# Altium integrated library NXP Semiconductors Automotive MOSFETs.IntLib: 540 symbols (part 9 of 16)
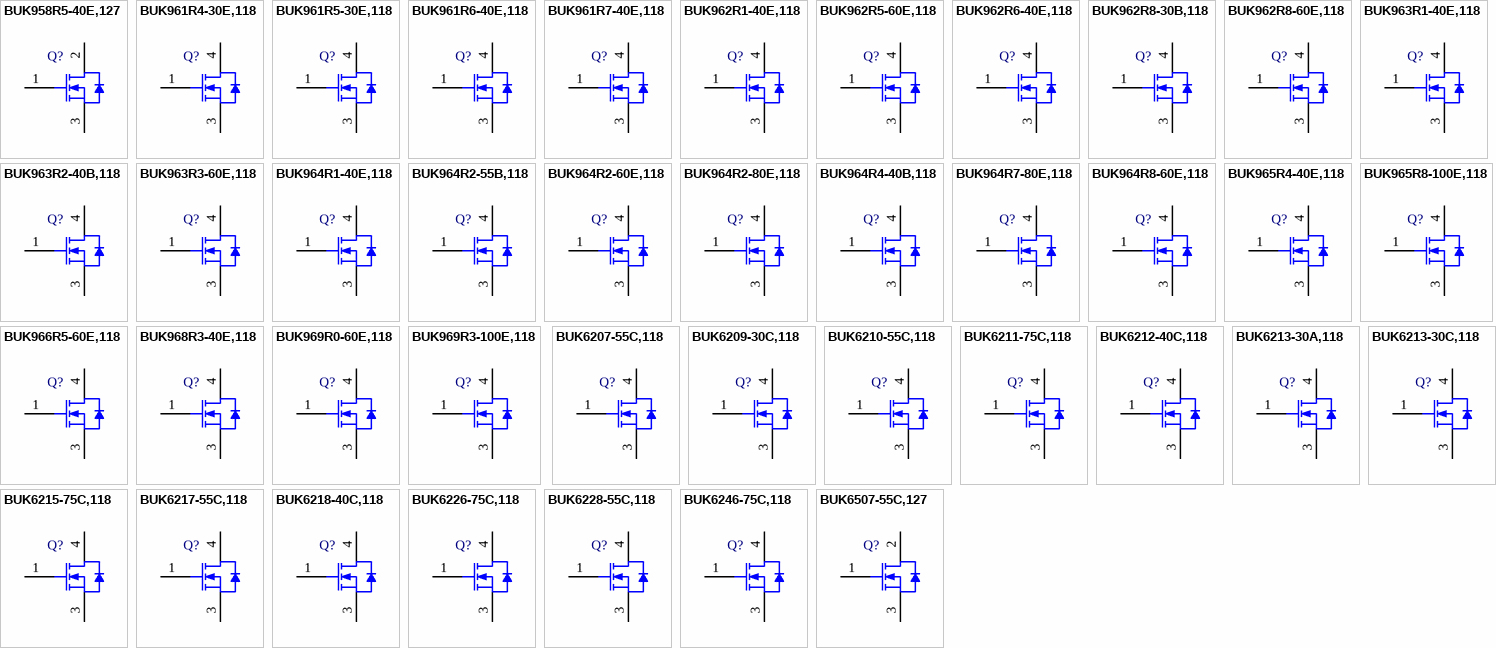
[diagram p22: symbols BUK958R5-40E,127 to BUK6507-55C,127]

## BUK961R7-40E,118
designator Q?
N-Channel TrenchMOS Logic Level FET, 40 V, 120 A, 3-Pin SOT404, Tape and Reel; Manufacturer: NXP Semiconductors; PartNumber: BUK961R7-40E,118; Automotive Qualified: Y; Channel Type: N; ID [max] (A): 120; IDM [max] (A): 1260; Packing: Tape & Reel; Qr [typ] (nC): 58.5; VDS [max] (V): 40; VGSth [typ] (V): 1.7; PackageVersion: 13-02-25, 02/2013; PackageReference: SOT404; PackageDescription: 3-Pin Plastic Single-ended Surface Mounted Package, Body 10 x 9.6 mm, Pitch 2.54 mm; Supplier 1: Digi-Key; Supplier Part Number 1: 568-10248-2-ND; Supplier 2: Digi-Key; Supplier Part Number 2: 568-10248-1-ND; Supplier 3: Digi-Key; Supplier Part Number 3: 568-10248-6-ND; Supplier 4: Mouser; Supplier Part Number 4: 771-BUK961R7-40E118; Mounting Technology: Surface Mount; ComponentLink1Description: Manufacturer URL; ComponentLink1URL: http://www.nxp.com/; ComponentLink2Description: Datasheet; ComponentLink2URL: http://www.nxp.com/documents/data_sheet/BUK961R7-40E.pdf; ComponentLink3Description: Package Specification; ComponentLink3URL: http://www.nxp.com/documents/outline_drawing/sot404_po.pdf
footprint NXP-SOT404_N (DPAK, 3-Leads, Body 10.3x9.8mm, Pitch 2.54mm, IPC Medium Density)
footprint NXP-SOT404_L (DPAK, 3-Leads, Body 10.3x9.8mm, Pitch 2.54mm, IPC High Density)
footprint NXP-SOT404_M (DPAK, 3-Leads, Body 10.3x9.8mm, Pitch 2.54mm, IPC Low Density)
pins: 1 G "gate", 3 S "source", 4 D "mounting base; connected to drain"

## BUK962R1-40E,118
designator Q?
N-Channel TrenchMOS Logic Level FET, 40 V, 120 A, 3-Pin SOT404, Tape and Reel; Manufacturer: NXP Semiconductors; PartNumber: BUK962R1-40E,118; Automotive Qualified: Y; Channel Type: N; ID [max] (A): 120; IDM [max] (A): 1078; Packing: Tape & Reel; Qr [typ] (nC): 62; VDS [max] (V): 40; VGSth [typ] (V): 1.7; PackageVersion: 13-02-25, 02/2013; PackageReference: SOT404; PackageDescription: 3-Pin Plastic Single-ended Surface Mounted Package, Body 10 x 9.6 mm, Pitch 2.54 mm; Supplier 1: Digi-Key; Supplier Part Number 1: 568-10249-2-ND; Supplier 2: Digi-Key; Supplier Part Number 2: 568-10249-1-ND; Supplier 3: Digi-Key; Supplier Part Number 3: 568-10249-6-ND; Supplier 4: Mouser; Supplier Part Number 4: 771-BUK962R1-40E118; Mounting Technology: Surface Mount; ComponentLink1Description: Manufacturer URL; ComponentLink1URL: http://www.nxp.com/; ComponentLink2Description: Datasheet; ComponentLink2URL: http://www.nxp.com/documents/data_sheet/BUK962R1-40E.pdf; ComponentLink3Description: Package Specification; ComponentLink3URL: http://www.nxp.com/documents/outline_drawing/sot404_po.pdf
footprint NXP-SOT404_N (DPAK, 3-Leads, Body 10.3x9.8mm, Pitch 2.54mm, IPC Medium Density)
footprint NXP-SOT404_L (DPAK, 3-Leads, Body 10.3x9.8mm, Pitch 2.54mm, IPC High Density)
footprint NXP-SOT404_M (DPAK, 3-Leads, Body 10.3x9.8mm, Pitch 2.54mm, IPC Low Density)
pins: 1 G "gate", 3 S "source", 4 D "mounting base; connected to drain"

## BUK962R5-60E,118
designator Q?
N-Channel TrenchMOS Logic Level FET, 60 V, 120 A, 3-Pin SOT404, Tape and Reel; Manufacturer: NXP Semiconductors; PartNumber: BUK962R5-60E,118; Automotive Qualified: Y; Channel Type: N; ID [max] (A): 120; IDM [max] (A): 1019; Packing: Tape & Reel; Qr [typ] (nC): 98; VDS [max] (V): 60; VGSth [typ] (V): 1.7; DatasheetVersion: Rev. 2; PackageVersion: 13-02-25, 02/2013; PackageReference: SOT404; PackageDescription: 3-Pin Plastic Single-ended Surface Mounted Package, Body 10 x 9.6 mm, Pitch 2.54 mm; Supplier 1: Digi-Key; Supplier Part Number 1: 568-9569-2-ND; Supplier 2: Digi-Key; Supplier Part Number 2: 568-9569-1-ND; Supplier 3: Digi-Key; Supplier Part Number 3: 568-9569-6-ND; Supplier 4: Mouser; Supplier Part Number 4: 771-BUK962R5-60E,118; Mounting Technology: Surface Mount; ComponentLink1Description: Manufacturer URL; ComponentLink1URL: http://www.nxp.com/; ComponentLink2Description: Datasheet; ComponentLink2URL: http://www.nxp.com/documents/data_sheet/BUK962R5-60E.pdf; ComponentLink3Description: Package Specification; ComponentLink3URL: http://www.nxp.com/documents/outline_drawing/sot404_po.pdf
footprint NXP-SOT404_N (DPAK, 3-Leads, Body 10.3x9.8mm, Pitch 2.54mm, IPC Medium Density)
footprint NXP-SOT404_L (DPAK, 3-Leads, Body 10.3x9.8mm, Pitch 2.54mm, IPC High Density)
footprint NXP-SOT404_M (DPAK, 3-Leads, Body 10.3x9.8mm, Pitch 2.54mm, IPC Low Density)
pins: 1 G "gate", 3 S "source", 4 D "mounting base; connected to drain"

## BUK962R6-40E,118
designator Q?
N-Channel TrenchMOS Logic Level FET, 40 V, 100 A, 3-Pin SOT404, Tape and Reel; Manufacturer: NXP Semiconductors; PartNumber: BUK962R6-40E,118; Automotive Qualified: Y; Channel Type: N; ID [max] (A): 100; IDM [max] (A): 885; Packing: Tape & Reel; Qr [typ] (nC): 49; VDS [max] (V): 40; VGSth [typ] (V): 1.7; PackageVersion: 13-02-25, 02/2013; PackageReference: SOT404; PackageDescription: 3-Pin Plastic Single-ended Surface Mounted Package, Body 10 x 9.6 mm, Pitch 2.54 mm; Supplier 1: Digi-Key; Supplier Part Number 1: 568-10250-2-ND; Supplier 2: Digi-Key; Supplier Part Number 2: 568-10250-1-ND; Supplier 3: Digi-Key; Supplier Part Number 3: 568-10250-6-ND; Supplier 4: Mouser; Supplier Part Number 4: 771-BUK962R6-40E118; Mounting Technology: Surface Mount; ComponentLink1Description: Manufacturer URL; ComponentLink1URL: http://www.nxp.com/; ComponentLink2Description: Datasheet; ComponentLink2URL: http://www.nxp.com/documents/data_sheet/BUK962R6-40E.pdf; ComponentLink3Description: Package Specification; ComponentLink3URL: http://www.nxp.com/documents/outline_drawing/sot404_po.pdf
footprint NXP-SOT404_N (DPAK, 3-Leads, Body 10.3x9.8mm, Pitch 2.54mm, IPC Medium Density)
footprint NXP-SOT404_L (DPAK, 3-Leads, Body 10.3x9.8mm, Pitch 2.54mm, IPC High Density)
footprint NXP-SOT404_M (DPAK, 3-Leads, Body 10.3x9.8mm, Pitch 2.54mm, IPC Low Density)
pins: 1 G "gate", 3 S "source", 4 D "mounting base; connected to drain"

## BUK962R8-30B,118
designator Q?
N-Channel TrenchMOS Logic Level FET, 30 V, 3-Pin SOT404, Tape and Reel; Manufacturer: NXP Semiconductors; PartNumber: BUK962R8-30B,118; Automotive Qualified: Y; Channel Type: N; IDM [max] (A): 950; Packing: Tape & Reel; Qr [typ] (nC): 171; VDS [max] (V): 30; VGSth [typ] (V): 1.5; DatasheetVersion: Rev. 3; PackageVersion: 13-02-25, 02/2013; PackageReference: SOT404; PackageDescription: 3-Pin Plastic Single-ended Surface Mounted Package, Body 10 x 9.6 mm, Pitch 2.54 mm; Supplier 1: Digi-Key; Supplier Part Number 1: 568-6587-2-ND; Supplier 2: Digi-Key; Supplier Part Number 2: 568-6587-1-ND; Supplier 3: Digi-Key; Supplier Part Number 3: 568-6587-6-ND; Supplier 4: Mouser; Supplier Part Number 4: 771-BUK962R8-30B118; Mounting Technology: Surface Mount; ComponentLink1Description: Manufacturer URL; ComponentLink1URL: http://www.nxp.com/; ComponentLink2Description: Datasheet; ComponentLink2URL: http://www.nxp.com/documents/data_sheet/BUK962R8-30B.pdf; ComponentLink3Description: Package Specification; ComponentLink3URL: http://www.nxp.com/documents/outline_drawing/sot404_po.pdf
footprint NXP-SOT404_N (DPAK, 3-Leads, Body 10.3x9.8mm, Pitch 2.54mm, IPC Medium Density)
footprint NXP-SOT404_L (DPAK, 3-Leads, Body 10.3x9.8mm, Pitch 2.54mm, IPC High Density)
footprint NXP-SOT404_M (DPAK, 3-Leads, Body 10.3x9.8mm, Pitch 2.54mm, IPC Low Density)
pins: 1 G "gate", 3 S "source", 4 D "mounting base; connected to drain"

## BUK962R8-60E,118
designator Q?
N-Channel TrenchMOS Logic Level FET, 60 V, 120 A, 3-Pin SOT404, Tape and Reel; Manufacturer: NXP Semiconductors; PartNumber: BUK962R8-60E,118; Automotive Qualified: Y; Channel Type: N; ID [max] (A): 120; IDM [max] (A): 917; Packing: Tape & Reel; Qr [typ] (nC): 74; VDS [max] (V): 60; VGSth [typ] (V): 1.7; PackageVersion: 13-02-25, 02/2013; PackageReference: SOT404; PackageDescription: 3-Pin Plastic Single-ended Surface Mounted Package, Body 10 x 9.6 mm, Pitch 2.54 mm; Supplier 1: Digi-Key; Supplier Part Number 1: 568-10251-2-ND; Supplier 2: Digi-Key; Supplier Part Number 2: 568-10251-1-ND; Supplier 3: Digi-Key; Supplier Part Number 3: 568-10251-6-ND; Supplier 4: Mouser; Supplier Part Number 4: 771-BUK962R8-60E118; Mounting Technology: Surface Mount; ComponentLink1Description: Manufacturer URL; ComponentLink1URL: http://www.nxp.com/; ComponentLink2Description: Datasheet; ComponentLink2URL: http://www.nxp.com/documents/data_sheet/BUK962R8-60E.pdf; ComponentLink3Description: Package Specification; ComponentLink3URL: http://www.nxp.com/documents/outline_drawing/sot404_po.pdf
footprint NXP-SOT404_N (DPAK, 3-Leads, Body 10.3x9.8mm, Pitch 2.54mm, IPC Medium Density)
footprint NXP-SOT404_L (DPAK, 3-Leads, Body 10.3x9.8mm, Pitch 2.54mm, IPC High Density)
footprint NXP-SOT404_M (DPAK, 3-Leads, Body 10.3x9.8mm, Pitch 2.54mm, IPC Low Density)
pins: 1 G "gate", 3 S "source", 4 D "mounting base; connected to drain"

## BUK963R1-40E,118
designator Q?
N-Channel TrenchMOS Logic Level FET, 40 V, 100 A, 3-Pin SOT404, Tape and Reel; Manufacturer: NXP Semiconductors; PartNumber: BUK963R1-40E,118; Automotive Qualified: Y; Channel Type: N; ID [max] (A): 100; IDM [max] (A): 794; Packing: Tape & Reel; Qr [typ] (nC): 47; VDS [max] (V): 40; VGSth [typ] (V): 1.7; PackageVersion: 13-02-25, 02/2013; PackageReference: SOT404; PackageDescription: 3-Pin Plastic Single-ended Surface Mounted Package, Body 10 x 9.6 mm, Pitch 2.54 mm; Supplier 1: Digi-Key; Supplier Part Number 1: 568-10253-2-ND; Supplier 2: Digi-Key; Supplier Part Number 2: 568-10253-1-ND; Supplier 3: Digi-Key; Supplier Part Number 3: 568-10253-6-ND; Supplier 4: Mouser; Supplier Part Number 4: 771-BUK963R1-40E118; Mounting Technology: Surface Mount; ComponentLink1Description: Manufacturer URL; ComponentLink1URL: http://www.nxp.com/; ComponentLink2Description: Datasheet; ComponentLink2URL: http://www.nxp.com/documents/data_sheet/BUK963R1-40E.pdf; ComponentLink3Description: Package Specification; ComponentLink3URL: http://www.nxp.com/documents/outline_drawing/sot404_po.pdf
footprint NXP-SOT404_N (DPAK, 3-Leads, Body 10.3x9.8mm, Pitch 2.54mm, IPC Medium Density)
footprint NXP-SOT404_L (DPAK, 3-Leads, Body 10.3x9.8mm, Pitch 2.54mm, IPC High Density)
footprint NXP-SOT404_M (DPAK, 3-Leads, Body 10.3x9.8mm, Pitch 2.54mm, IPC Low Density)
pins: 1 G "gate", 3 S "source", 4 D "mounting base; connected to drain"

## BUK963R2-40B,118
designator Q?
N-Channel TrenchMOS Logic Level FET, 40 V, 3-Pin SOT404, Tape and Reel; Manufacturer: NXP Semiconductors; PartNumber: BUK963R2-40B,118; Automotive Qualified: Y; Channel Type: N; IDM [max] (A): 888; Packing: Tape & Reel; Qr [typ] (nC): 127; VDS [max] (V): 40; VGSth [typ] (V): 1.5; PackageVersion: 13-02-25, 02/2013; PackageReference: SOT404; PackageDescription: 3-Pin Plastic Single-ended Surface Mounted Package, Body 10 x 9.6 mm, Pitch 2.54 mm; Supplier 1: Digi-Key; Supplier Part Number 1: 568-6588-2-ND; Supplier 2: Digi-Key; Supplier Part Number 2: 568-6588-1-ND; Supplier 3: Digi-Key; Supplier Part Number 3: 568-6588-6-ND; Supplier 4: Mouser; Supplier Part Number 4: 771-BUK963R2-40B118; Mounting Technology: Surface Mount; ComponentLink1Description: Manufacturer URL; ComponentLink1URL: http://www.nxp.com/; ComponentLink2Description: Datasheet; ComponentLink2URL: http://www.nxp.com/documents/data_sheet/BUK963R2-40B.pdf; ComponentLink3Description: Package Specification; ComponentLink3URL: http://www.nxp.com/documents/outline_drawing/sot404_po.pdf
footprint NXP-SOT404_N (DPAK, 3-Leads, Body 10.3x9.8mm, Pitch 2.54mm, IPC Medium Density)
footprint NXP-SOT404_L (DPAK, 3-Leads, Body 10.3x9.8mm, Pitch 2.54mm, IPC High Density)
footprint NXP-SOT404_M (DPAK, 3-Leads, Body 10.3x9.8mm, Pitch 2.54mm, IPC Low Density)
pins: 1 G "gate", 3 S "source", 4 D "mounting base; connected to drain"

## BUK963R3-60E,118
designator Q?
N-Channel TrenchMOS Logic Level FET, 60 V, 120 A, 3-Pin SOT404, Tape and Reel; Manufacturer: NXP Semiconductors; PartNumber: BUK963R3-60E,118; Automotive Qualified: Y; Channel Type: N; ID [max] (A): 120; IDM [max] (A): 803; Packing: Tape & Reel; Qr [typ] (nC): 67; VDS [max] (V): 60; VGSth [typ] (V): 1.7; PackageVersion: 13-02-25, 02/2013; PackageReference: SOT404; PackageDescription: 3-Pin Plastic Single-ended Surface Mounted Package, Body 10 x 9.6 mm, Pitch 2.54 mm; Supplier 1: Digi-Key; Supplier Part Number 1: 568-10254-2-ND; Supplier 2: Digi-Key; Supplier Part Number 2: 568-10254-1-ND; Supplier 3: Digi-Key; Supplier Part Number 3: 568-10254-6-ND; Supplier 4: Mouser; Supplier Part Number 4: 771-BUK963R3-60E118; Mounting Technology: Surface Mount; ComponentLink1Description: Manufacturer URL; ComponentLink1URL: http://www.nxp.com/; ComponentLink2Description: Datasheet; ComponentLink2URL: http://www.nxp.com/documents/data_sheet/BUK963R3-60E.pdf; ComponentLink3Description: Package Specification; ComponentLink3URL: http://www.nxp.com/documents/outline_drawing/sot404_po.pdf
footprint NXP-SOT404_N (DPAK, 3-Leads, Body 10.3x9.8mm, Pitch 2.54mm, IPC Medium Density)
footprint NXP-SOT404_L (DPAK, 3-Leads, Body 10.3x9.8mm, Pitch 2.54mm, IPC High Density)
footprint NXP-SOT404_M (DPAK, 3-Leads, Body 10.3x9.8mm, Pitch 2.54mm, IPC Low Density)
pins: 1 G "gate", 3 S "source", 4 D "mounting base; connected to drain"

## BUK964R1-40E,118
designator Q?
N-Channel TrenchMOS Logic Level FET, 40 V, 75 A, 3-Pin SOT404, Tape and Reel; Manufacturer: NXP Semiconductors; PartNumber: BUK964R1-40E,118; Automotive Qualified: Y; Channel Type: N; ID [max] (A): 75; IDM [max] (A): 609; Packing: Tape & Reel; Qr [typ] (nC): 30.3; VDS [max] (V): 40; VGSth [typ] (V): 1.7; PackageVersion: 13-02-25, 02/2013; PackageReference: SOT404; PackageDescription: 3-Pin Plastic Single-ended Surface Mounted Package, Body 10 x 9.6 mm, Pitch 2.54 mm; Supplier 1: Digi-Key; Supplier Part Number 1: 568-9889-2-ND; Supplier 2: Digi-Key; Supplier Part Number 2: 568-9889-1-ND; Supplier 3: Digi-Key; Supplier Part Number 3: 568-9889-6-ND; Supplier 4: Newark; Supplier Part Number 4: 45W7329; Supplier 5: Mouser; Supplier Part Number 5: 771-BUK964R1-40E118; Mounting Technology: Surface Mount; ComponentLink1Description: Manufacturer URL; ComponentLink1URL: http://www.nxp.com/; ComponentLink2Description: Datasheet; ComponentLink2URL: http://www.nxp.com/documents/data_sheet/BUK964R1-40E.pdf; ComponentLink3Description: Package Specification; ComponentLink3URL: http://www.nxp.com/documents/outline_drawing/sot404_po.pdf
footprint NXP-SOT404_N (DPAK, 3-Leads, Body 10.3x9.8mm, Pitch 2.54mm, IPC Medium Density)
footprint NXP-SOT404_L (DPAK, 3-Leads, Body 10.3x9.8mm, Pitch 2.54mm, IPC High Density)
footprint NXP-SOT404_M (DPAK, 3-Leads, Body 10.3x9.8mm, Pitch 2.54mm, IPC Low Density)
pins: 1 G "gate", 3 S "source", 4 D "mounting base; connected to drain"

## BUK964R2-55B,118
designator Q?
N-Channel TrenchMOS Logic Level FET, 55 V, 3-Pin SOT404, Tape and Reel; Manufacturer: NXP Semiconductors; PartNumber: BUK964R2-55B,118; Automotive Qualified: Y; Channel Type: N; IDM [max] (A): 765; Packing: Tape & Reel; Qr [typ] (nC): 171; VDS [max] (V): 55; VGSth [typ] (V): 1.5; DatasheetVersion: Rev. 03; PackageVersion: 13-02-25, 02/2013; PackageReference: SOT404; PackageDescription: 3-Pin Plastic Single-ended Surface Mounted Package, Body 10 x 9.6 mm, Pitch 2.54 mm; Supplier 1: Digi-Key; Supplier Part Number 1: 568-6589-2-ND; Supplier 2: Digi-Key; Supplier Part Number 2: 568-6589-1-ND; Supplier 3: Digi-Key; Supplier Part Number 3: 568-6589-6-ND; Supplier 4: Mouser; Supplier Part Number 4: 771-BUK964R2-55B118; Mounting Technology: Surface Mount; ComponentLink1Description: Manufacturer URL; ComponentLink1URL: http://www.nxp.com/; ComponentLink2Description: Datasheet; ComponentLink2URL: http://www.nxp.com/documents/data_sheet/BUK964R2-55B.pdf; ComponentLink3Description: Package Specification; ComponentLink3URL: http://www.nxp.com/documents/outline_drawing/sot404_po.pdf
footprint NXP-SOT404_N (DPAK, 3-Leads, Body 10.3x9.8mm, Pitch 2.54mm, IPC Medium Density)
footprint NXP-SOT404_L (DPAK, 3-Leads, Body 10.3x9.8mm, Pitch 2.54mm, IPC High Density)
footprint NXP-SOT404_M (DPAK, 3-Leads, Body 10.3x9.8mm, Pitch 2.54mm, IPC Low Density)
pins: 1 G "gate", 3 S "source", 4 D "mounting base; connected to drain"

## BUK964R2-60E,118
designator Q?
N-Channel TrenchMOS Logic Level FET, 60 V, 100 A, 3-Pin SOT404, Tape and Reel; Manufacturer: NXP Semiconductors; PartNumber: BUK964R2-60E,118; Automotive Qualified: Y; Channel Type: N; ID [max] (A): 100; IDM [max] (A): 675; Packing: Tape & Reel; Qr [typ] (nC): 59; VDS [max] (V): 60; VGSth [typ] (V): 1.7; PackageVersion: 13-02-25, 02/2013; PackageReference: SOT404; PackageDescription: 3-Pin Plastic Single-ended Surface Mounted Package, Body 10 x 9.6 mm, Pitch 2.54 mm; Supplier 1: Digi-Key; Supplier Part Number 1: 568-10255-2-ND; Supplier 2: Digi-Key; Supplier Part Number 2: 568-10255-1-ND; Supplier 3: Digi-Key; Supplier Part Number 3: 568-10255-6-ND; Supplier 4: Mouser; Supplier Part Number 4: 771-BUK964R2-60E118; Mounting Technology: Surface Mount; ComponentLink1Description: Manufacturer URL; ComponentLink1URL: http://www.nxp.com/; ComponentLink2Description: Datasheet; ComponentLink2URL: http://www.nxp.com/documents/data_sheet/BUK964R2-60E.pdf; ComponentLink3Description: Package Specification; ComponentLink3URL: http://www.nxp.com/documents/outline_drawing/sot404_po.pdf
footprint NXP-SOT404_N (DPAK, 3-Leads, Body 10.3x9.8mm, Pitch 2.54mm, IPC Medium Density)
footprint NXP-SOT404_L (DPAK, 3-Leads, Body 10.3x9.8mm, Pitch 2.54mm, IPC High Density)
footprint NXP-SOT404_M (DPAK, 3-Leads, Body 10.3x9.8mm, Pitch 2.54mm, IPC Low Density)
pins: 1 G "gate", 3 S "source", 4 D "mounting base; connected to drain"

## BUK964R2-80E,118
designator Q?
N-Channel TrenchMOS Logic Level FET, 80 V, 120 A, 3-Pin SOT404, Tape and Reel; Manufacturer: NXP Semiconductors; PartNumber: BUK964R2-80E,118; Automotive Qualified: Y; Channel Type: N; ID [max] (A): 120; IDM [max] (A): 732; Packing: Tape & Reel; Qr [typ] (nC): 139; VDS [max] (V): 80; VGSth [typ] (V): 1.7; PackageVersion: 13-02-25, 02/2013; PackageReference: SOT404; PackageDescription: 3-Pin Plastic Single-ended Surface Mounted Package, Body 10 x 9.6 mm, Pitch 2.54 mm; Supplier 1: Digi-Key; Supplier Part Number 1: BUK964R2-80E,118-ND; Supplier 2: Mouser; Supplier Part Number 2: 771-BUK964R2-80E118; Mounting Technology: Surface Mount; ComponentLink1Description: Manufacturer URL; ComponentLink1URL: http://www.nxp.com/; ComponentLink2Description: Datasheet; ComponentLink2URL: http://www.nxp.com/documents/data_sheet/BUK964R2-80E.pdf; ComponentLink3Description: Package Specification; ComponentLink3URL: http://www.nxp.com/documents/outline_drawing/sot404_po.pdf
footprint NXP-SOT404_N (DPAK, 3-Leads, Body 10.3x9.8mm, Pitch 2.54mm, IPC Medium Density)
footprint NXP-SOT404_L (DPAK, 3-Leads, Body 10.3x9.8mm, Pitch 2.54mm, IPC High Density)
footprint NXP-SOT404_M (DPAK, 3-Leads, Body 10.3x9.8mm, Pitch 2.54mm, IPC Low Density)
pins: 1 G "gate", 3 S "source", 4 D "mounting base; connected to drain"

## BUK964R4-40B,118
designator Q?
N-Channel TrenchMOS Logic Level FET, 40 V, 3-Pin SOT404, Tape and Reel; Manufacturer: NXP Semiconductors; PartNumber: BUK964R4-40B,118; Automotive Qualified: Y; Channel Type: N; IDM [max] (A): 697; Packing: Tape & Reel; Qr [typ] (nC): 67; VDS [max] (V): 40; VGSth [typ] (V): 1.5; DatasheetVersion: Rev. 03; PackageVersion: 13-02-25, 02/2013; PackageReference: SOT404; PackageDescription: 3-Pin Plastic Single-ended Surface Mounted Package, Body 10 x 9.6 mm, Pitch 2.54 mm; Supplier 1: Digi-Key; Supplier Part Number 1: 568-6590-2-ND; Supplier 2: Digi-Key; Supplier Part Number 2: 568-6590-1-ND; Supplier 3: Digi-Key; Supplier Part Number 3: 568-6590-6-ND; Supplier 4: Mouser; Supplier Part Number 4: 771-BUK964R4-40B118; Mounting Technology: Surface Mount; ComponentLink1Description: Manufacturer URL; ComponentLink1URL: http://www.nxp.com/; ComponentLink2Description: Datasheet; ComponentLink2URL: http://www.nxp.com/documents/data_sheet/BUK964R4-40B.pdf; ComponentLink3Description: Package Specification; ComponentLink3URL: http://www.nxp.com/documents/outline_drawing/sot404_po.pdf
footprint NXP-SOT404_N (DPAK, 3-Leads, Body 10.3x9.8mm, Pitch 2.54mm, IPC Medium Density)
footprint NXP-SOT404_L (DPAK, 3-Leads, Body 10.3x9.8mm, Pitch 2.54mm, IPC High Density)
footprint NXP-SOT404_M (DPAK, 3-Leads, Body 10.3x9.8mm, Pitch 2.54mm, IPC Low Density)
pins: 1 G "gate", 3 S "source", 4 D "mounting base; connected to drain"

## BUK964R7-80E,118
designator Q?
N-Channel TrenchMOS Logic Level FET, 80 V, 120 A, 3-Pin SOT404, Tape and Reel; Manufacturer: NXP Semiconductors; PartNumber: BUK964R7-80E,118; Automotive Qualified: Y; Channel Type: N; ID [max] (A): 120; IDM [max] (A): 667; Packing: Tape & Reel; Qr [typ] (nC): 97.2; VDS [max] (V): 80; VGSth [typ] (V): 1.7; PackageVersion: 13-02-25, 02/2013; PackageReference: SOT404; PackageDescription: 3-Pin Plastic Single-ended Surface Mounted Package, Body 10 x 9.6 mm, Pitch 2.54 mm; Supplier 1: Digi-Key; Supplier Part Number 1: 568-10173-2-ND; Supplier 2: Digi-Key; Supplier Part Number 2: 568-10173-1-ND; Supplier 3: Digi-Key; Supplier Part Number 3: 568-10173-6-ND; Supplier 4: Mouser; Supplier Part Number 4: 771-BUK964R7-80E118; Mounting Technology: Surface Mount; ComponentLink1Description: Manufacturer URL; ComponentLink1URL: http://www.nxp.com/; ComponentLink2Description: Datasheet; ComponentLink2URL: http://www.nxp.com/documents/data_sheet/BUK964R7-80E.pdf; ComponentLink3Description: Package Specification; ComponentLink3URL: http://www.nxp.com/documents/outline_drawing/sot404_po.pdf
footprint NXP-SOT404_N (DPAK, 3-Leads, Body 10.3x9.8mm, Pitch 2.54mm, IPC Medium Density)
footprint NXP-SOT404_L (DPAK, 3-Leads, Body 10.3x9.8mm, Pitch 2.54mm, IPC High Density)
footprint NXP-SOT404_M (DPAK, 3-Leads, Body 10.3x9.8mm, Pitch 2.54mm, IPC Low Density)
pins: 1 G "gate", 3 S "source", 4 D "mounting base; connected to drain"

## BUK964R8-60E,118
designator Q?
N-Channel TrenchMOS Logic Level FET, 60 V, 100 A, 3-Pin SOT404, Tape and Reel; Manufacturer: NXP Semiconductors; PartNumber: BUK964R8-60E,118; Automotive Qualified: Y; Channel Type: N; ID [max] (A): 100; IDM [max] (A): 596; Packing: Tape & Reel; Qr [typ] (nC): 56; VDS [max] (V): 60; VGSth [typ] (V): 1.7; PackageVersion: 13-02-25, 02/2013; PackageReference: SOT404; PackageDescription: 3-Pin Plastic Single-ended Surface Mounted Package, Body 10 x 9.6 mm, Pitch 2.54 mm; Supplier 1: Digi-Key; Supplier Part Number 1: 568-9890-2-ND; Supplier 2: Digi-Key; Supplier Part Number 2: 568-9890-1-ND; Supplier 3: Digi-Key; Supplier Part Number 3: 568-9890-6-ND; Supplier 4: Mouser; Supplier Part Number 4: 771-BUK964R8-60E118; Mounting Technology: Surface Mount; ComponentLink1Description: Manufacturer URL; ComponentLink1URL: http://www.nxp.com/; ComponentLink2Description: Datasheet; ComponentLink2URL: http://www.nxp.com/documents/data_sheet/BUK964R8-60E.pdf; ComponentLink3Description: Package Specification; ComponentLink3URL: http://www.nxp.com/documents/outline_drawing/sot404_po.pdf
footprint NXP-SOT404_N (DPAK, 3-Leads, Body 10.3x9.8mm, Pitch 2.54mm, IPC Medium Density)
footprint NXP-SOT404_L (DPAK, 3-Leads, Body 10.3x9.8mm, Pitch 2.54mm, IPC High Density)
footprint NXP-SOT404_M (DPAK, 3-Leads, Body 10.3x9.8mm, Pitch 2.54mm, IPC Low Density)
pins: 1 G "gate", 3 S "source", 4 D "mounting base; connected to drain"

## BUK965R4-40E,118
designator Q?
N-Channel TrenchMOS Logic Level FET, 40 V, 75 A, 3-Pin SOT404, Tape and Reel; Manufacturer: NXP Semiconductors; PartNumber: BUK965R4-40E,118; Automotive Qualified: Y; Channel Type: N; ID [max] (A): 75; IDM [max] (A): 460; Packing: Tape & Reel; Qr [typ] (nC): 22.6; VDS [max] (V): 40; VGSth [typ] (V): 1.7; PackageVersion: 13-02-25, 02/2013; PackageReference: SOT404; PackageDescription: 3-Pin Plastic Single-ended Surface Mounted Package, Body 10 x 9.6 mm, Pitch 2.54 mm; Supplier 1: Digi-Key; Supplier Part Number 1: 568-9891-2-ND; Supplier 2: Digi-Key; Supplier Part Number 2: 568-9891-1-ND; Supplier 3: Digi-Key; Supplier Part Number 3: 568-9891-6-ND; Supplier 4: Mouser; Supplier Part Number 4: 771-BUK965R4-40E118; Mounting Technology: Surface Mount; ComponentLink1Description: Manufacturer URL; ComponentLink1URL: http://www.nxp.com/; ComponentLink2Description: Datasheet; ComponentLink2URL: http://www.nxp.com/documents/data_sheet/BUK965R4-40E.pdf; ComponentLink3Description: Package Specification; ComponentLink3URL: http://www.nxp.com/documents/outline_drawing/sot404_po.pdf
footprint NXP-SOT404_N (DPAK, 3-Leads, Body 10.3x9.8mm, Pitch 2.54mm, IPC Medium Density)
footprint NXP-SOT404_L (DPAK, 3-Leads, Body 10.3x9.8mm, Pitch 2.54mm, IPC High Density)
footprint NXP-SOT404_M (DPAK, 3-Leads, Body 10.3x9.8mm, Pitch 2.54mm, IPC Low Density)
pins: 1 G "gate", 3 S "source", 4 D "mounting base; connected to drain"

## BUK965R8-100E,118
designator Q?
N-Channel TrenchMOS Logic Level FET, 100 V, 120 A, 3-Pin SOT404, Tape and Reel; Manufacturer: NXP Semiconductors; PartNumber: BUK965R8-100E,118; Automotive Qualified: Y; Channel Type: N; ID [max] (A): 120; IDM [max] (A): 597; Packing: Tape & Reel; Qr [typ] (nC): 202; VDS [max] (V): 100; VGSth [typ] (V): 1.7; DatasheetVersion: Rev. 2; PackageVersion: 13-02-25, 02/2013; PackageReference: SOT404; PackageDescription: 3-Pin Plastic Single-ended Surface Mounted Package, Body 10 x 9.6 mm, Pitch 2.54 mm; Supplier 1: Digi-Key; Supplier Part Number 1: 568-9570-2-ND; Supplier 2: Digi-Key; Supplier Part Number 2: 568-9570-1-ND; Supplier 3: Digi-Key; Supplier Part Number 3: 568-9570-6-ND; Supplier 4: Mouser; Supplier Part Number 4: 771-BUK965R8-100E118; Mounting Technology: Surface Mount; ComponentLink1Description: Manufacturer URL; ComponentLink1URL: http://www.nxp.com/; ComponentLink2Description: Datasheet; ComponentLink2URL: http://www.nxp.com/documents/data_sheet/BUK965R8-100E.pdf; ComponentLink3Description: Package Specification; ComponentLink3URL: http://www.nxp.com/documents/outline_drawing/sot404_po.pdf
footprint NXP-SOT404_N (DPAK, 3-Leads, Body 10.3x9.8mm, Pitch 2.54mm, IPC Medium Density)
footprint NXP-SOT404_L (DPAK, 3-Leads, Body 10.3x9.8mm, Pitch 2.54mm, IPC High Density)
footprint NXP-SOT404_M (DPAK, 3-Leads, Body 10.3x9.8mm, Pitch 2.54mm, IPC Low Density)
pins: 1 G "gate", 3 S "source", 4 D "mounting base; connected to drain"

## BUK966R5-60E,118
designator Q?
N-Channel TrenchMOS Logic Level FET, 60 V, 75 A, 3-Pin SOT404, Tape and Reel; Manufacturer: NXP Semiconductors; PartNumber: BUK966R5-60E,118; Automotive Qualified: Y; Channel Type: N; ID [max] (A): 75; IDM [max] (A): 452; Packing: Tape & Reel; Qr [typ] (nC): 44; VDS [max] (V): 60; VGSth [typ] (V): 1.7; PackageVersion: 13-02-25, 02/2013; PackageReference: SOT404; PackageDescription: 3-Pin Plastic Single-ended Surface Mounted Package, Body 10 x 9.6 mm, Pitch 2.54 mm; Supplier 1: Digi-Key; Supplier Part Number 1: 568-9892-2-ND; Supplier 2: Digi-Key; Supplier Part Number 2: 568-9892-1-ND; Supplier 3: Digi-Key; Supplier Part Number 3: 568-9892-6-ND; Supplier 4: Mouser; Supplier Part Number 4: 771-BUK966R5-60E118; Mounting Technology: Surface Mount; ComponentLink1Description: Manufacturer URL; ComponentLink1URL: http://www.nxp.com/; ComponentLink2Description: Datasheet; ComponentLink2URL: http://www.nxp.com/documents/data_sheet/BUK966R5-60E.pdf; ComponentLink3Description: Package Specification; ComponentLink3URL: http://www.nxp.com/documents/outline_drawing/sot404_po.pdf
footprint NXP-SOT404_N (DPAK, 3-Leads, Body 10.3x9.8mm, Pitch 2.54mm, IPC Medium Density)
footprint NXP-SOT404_L (DPAK, 3-Leads, Body 10.3x9.8mm, Pitch 2.54mm, IPC High Density)
footprint NXP-SOT404_M (DPAK, 3-Leads, Body 10.3x9.8mm, Pitch 2.54mm, IPC Low Density)
pins: 1 G "gate", 3 S "source", 4 D "mounting base; connected to drain"

## BUK968R3-40E,118
designator Q?
N-Channel TrenchMOS Logic Level FET, 40 V, 75 A, 3-Pin SOT404, Tape and Reel; Manufacturer: NXP Semiconductors; PartNumber: BUK968R3-40E,118; Automotive Qualified: Y; Channel Type: N; ID [max] (A): 75; IDM [max] (A): 319; Packing: Tape & Reel; Qr [typ] (nC): 13.6; VDS [max] (V): 40; VGSth [typ] (V): 1.7; PackageVersion: 13-02-25, 02/2013; PackageReference: SOT404; PackageDescription: 3-Pin Plastic Single-ended Surface Mounted Package, Body 10 x 9.6 mm, Pitch 2.54 mm; Supplier 1: Digi-Key; Supplier Part Number 1: 568-9893-2-ND; Supplier 2: Digi-Key; Supplier Part Number 2: 568-9893-1-ND; Supplier 3: Digi-Key; Supplier Part Number 3: 568-9893-6-ND; Supplier 4: Mouser; Supplier Part Number 4: 771-BUK968R3-40E118; Mounting Technology: Surface Mount; ComponentLink1Description: Manufacturer URL; ComponentLink1URL: http://www.nxp.com/; ComponentLink2Description: Datasheet; ComponentLink2URL: http://www.nxp.com/documents/data_sheet/BUK968R3-40E.pdf; ComponentLink3Description: Package Specification; ComponentLink3URL: http://www.nxp.com/documents/outline_drawing/sot404_po.pdf
footprint NXP-SOT404_N (DPAK, 3-Leads, Body 10.3x9.8mm, Pitch 2.54mm, IPC Medium Density)
footprint NXP-SOT404_L (DPAK, 3-Leads, Body 10.3x9.8mm, Pitch 2.54mm, IPC High Density)
footprint NXP-SOT404_M (DPAK, 3-Leads, Body 10.3x9.8mm, Pitch 2.54mm, IPC Low Density)
pins: 1 G "gate", 3 S "source", 4 D "mounting base; connected to drain"

## BUK969R0-60E,118
designator Q?
N-Channel TrenchMOS Logic Level FET, 60 V, 75 A, 3-Pin SOT404, Tape and Reel; Manufacturer: NXP Semiconductors; PartNumber: BUK969R0-60E,118; Automotive Qualified: Y; Channel Type: N; ID [max] (A): 75; IDM [max] (A): 333; Packing: Tape & Reel; Qr [typ] (nC): 28; VDS [max] (V): 60; VGSth [typ] (V): 1.7; PackageVersion: 13-02-25, 02/2013; PackageReference: SOT404; PackageDescription: 3-Pin Plastic Single-ended Surface Mounted Package, Body 10 x 9.6 mm, Pitch 2.54 mm; Supplier 1: Digi-Key; Supplier Part Number 1: 568-9894-2-ND; Supplier 2: Digi-Key; Supplier Part Number 2: 568-9894-1-ND; Supplier 3: Digi-Key; Supplier Part Number 3: 568-9894-6-ND; Supplier 4: Mouser; Supplier Part Number 4: 771-BUK969R0-60E118; Mounting Technology: Surface Mount; ComponentLink1Description: Manufacturer URL; ComponentLink1URL: http://www.nxp.com/; ComponentLink2Description: Datasheet; ComponentLink2URL: http://www.nxp.com/documents/data_sheet/BUK969R0-60E.pdf; ComponentLink3Description: Package Specification; ComponentLink3URL: http://www.nxp.com/documents/outline_drawing/sot404_po.pdf
footprint NXP-SOT404_N (DPAK, 3-Leads, Body 10.3x9.8mm, Pitch 2.54mm, IPC Medium Density)
footprint NXP-SOT404_L (DPAK, 3-Leads, Body 10.3x9.8mm, Pitch 2.54mm, IPC High Density)
footprint NXP-SOT404_M (DPAK, 3-Leads, Body 10.3x9.8mm, Pitch 2.54mm, IPC Low Density)
pins: 1 G "gate", 3 S "source", 4 D "mounting base; connected to drain"

## BUK969R3-100E,118
designator Q?
N-Channel TrenchMOS Logic Level FET, 100 V, 100 A, 3-Pin SOT404, Tape and Reel; Manufacturer: NXP Semiconductors; PartNumber: BUK969R3-100E,118; Automotive Qualified: Y; Channel Type: N; ID [max] (A): 100; IDM [max] (A): 405; Packing: Tape & Reel; Qr [typ] (nC): 142; VGSth [typ] (V): 1.7; PackageVersion: 13-02-25, 02/2013; PackageReference: SOT404; PackageDescription: 3-Pin Plastic Single-ended Surface Mounted Package, Body 10 x 9.6 mm, Pitch 2.54 mm; Supplier 1: Digi-Key; Supplier Part Number 1: 568-10174-2-ND; Supplier 2: Digi-Key; Supplier Part Number 2: 568-10174-1-ND; Supplier 3: Digi-Key; Supplier Part Number 3: 568-10174-6-ND; Supplier 4: Mouser; Supplier Part Number 4: 771-BUK969R3-100E118; VDS [max] (V): 100; Mounting Technology: Surface Mount; ComponentLink1Description: Manufacturer URL; ComponentLink1URL: http://www.nxp.com/; ComponentLink2Description: Datasheet; ComponentLink2URL: http://www.nxp.com/documents/data_sheet/BUK969R3-100E.pdf; ComponentLink3Description: Package Specification; ComponentLink3URL: http://www.nxp.com/documents/outline_drawing/sot404_po.pdf
footprint NXP-SOT404_N (DPAK, 3-Leads, Body 10.3x9.8mm, Pitch 2.54mm, IPC Medium Density)
footprint NXP-SOT404_L (DPAK, 3-Leads, Body 10.3x9.8mm, Pitch 2.54mm, IPC High Density)
footprint NXP-SOT404_M (DPAK, 3-Leads, Body 10.3x9.8mm, Pitch 2.54mm, IPC Low Density)
pins: 1 G "gate", 3 S "source", 4 D "mounting base; connected to drain"

## BUK6207-55C,118
designator Q?
N-Channel TrenchMOS Intermediate Level FET, 55 V, 90 A, 3-Pin SOT428, Tape and Reel; Manufacturer: NXP Semiconductors; PartNumber: BUK6207-55C,118; Automotive Qualified: Y; Channel Type: N; ID [max] (A): 90; IDM [max] (A): 383; Packing: Tape & Reel; Qr [typ] (nC): 86; VDS [max] (V): 55; VGSth [typ] (V): 2.3; DatasheetVersion: Rev. 2; PackageVersion: 14-06-10, 06/2014; PackageReference: SOT428; PackageDescription: 3-Pin Plastic Single-ended Surface Mounted Package, Body 6.1 x 6.6 mm, Pitch 2.285 mm; Supplier 1: Digi-Key; Supplier Part Number 1: 568-6978-2-ND; Supplier 2: Digi-Key; Supplier Part Number 2: 568-6978-1-ND; Supplier 3: Digi-Key; Supplier Part Number 3: 568-6978-6-ND; Supplier 4: Newark; Supplier Part Number 4: 24T6199; Supplier 5: Mouser; Supplier Part Number 5: 771-BUK620755C118; Mounting Technology: Surface Mount; Code_JEITA: SC-63; Code_JEDEC: TO-252; ComponentLink1Description: Manufacturer URL; ComponentLink1URL: http://www.nxp.com/; ComponentLink2Description: Datasheet; ComponentLink2URL: http://www.nxp.com/documents/data_sheet/BUK6207-55C.pdf; ComponentLink3Description: Package Specification; ComponentLink3URL: http://www.nxp.com/documents/outline_drawing/sot428_po.pdf
footprint NXP-SOT428_N (DPAK, 3-Leads, Body 6.75x6.22mm, Pitch 2.29mm, IPC Medium Density)
footprint NXP-SOT428_L (DPAK, 3-Leads, Body 6.75x6.22mm, Pitch 2.29mm, IPC High Density)
footprint NXP-SOT428_M (DPAK, 3-Leads, Body 6.75x6.22mm, Pitch 2.29mm, IPC Low Density)
pins: 1 G "gate", 3 S "source", 4 D "mounting base; connected to drain"

## BUK6209-30C,118
designator Q?
N-Channel TrenchMOS Intermediate Level FET, 30 V, 50 A, 3-Pin SOT428, Tape and Reel; Manufacturer: NXP Semiconductors; PartNumber: BUK6209-30C,118; Automotive Qualified: Y; Channel Type: N; ID [max] (A): 50; IDM [max] (A): 262; Packing: Tape & Reel; Qr [typ] (nC): 32; VDS [max] (V): 30; VGSth [typ] (V): 2.3; DatasheetVersion: Rev. 2; PackageVersion: 14-06-10, 06/2014; PackageReference: SOT428; PackageDescription: 3-Pin Plastic Single-ended Surface Mounted Package, Body 6.1 x 6.6 mm, Pitch 2.285 mm; Supplier 1: Digi-Key; Supplier Part Number 1: 568-6980-2-ND; Supplier 2: Digi-Key; Supplier Part Number 2: 568-6980-1-ND; Supplier 3: Digi-Key; Supplier Part Number 3: 568-6980-6-ND; Supplier 4: Mouser; Supplier Part Number 4: 771-BUK620930C118; Mounting Technology: Surface Mount; Code_JEITA: SC-63; Code_JEDEC: TO-252; ComponentLink1Description: Manufacturer URL; ComponentLink1URL: http://www.nxp.com/; ComponentLink2Description: Datasheet; ComponentLink2URL: http://www.nxp.com/documents/data_sheet/BUK6209-30C.pdf; ComponentLink3Description: Package Specification; ComponentLink3URL: http://www.nxp.com/documents/outline_drawing/sot428_po.pdf
footprint NXP-SOT428_N (DPAK, 3-Leads, Body 6.75x6.22mm, Pitch 2.29mm, IPC Medium Density)
footprint NXP-SOT428_L (DPAK, 3-Leads, Body 6.75x6.22mm, Pitch 2.29mm, IPC High Density)
footprint NXP-SOT428_M (DPAK, 3-Leads, Body 6.75x6.22mm, Pitch 2.29mm, IPC Low Density)
pins: 1 G "gate", 3 S "source", 4 D "mounting base; connected to drain"

## BUK6210-55C,118
designator Q?
N-Channel TrenchMOS Intermediate Level FET, 55 V, 78 A, 3-Pin SOT428, Tape and Reel; Manufacturer: NXP Semiconductors; PartNumber: BUK6210-55C,118; Automotive Qualified: Y; Channel Type: N; ID [max] (A): 78; IDM [max] (A): 311; Packing: Tape & Reel; Qr [typ] (nC): 88; VDS [max] (V): 55; VGSth [typ] (V): 2.3; DatasheetVersion: Rev. 2; PackageVersion: 14-06-10, 06/2014; PackageReference: SOT428; PackageDescription: 3-Pin Plastic Single-ended Surface Mounted Package, Body 6.1 x 6.6 mm, Pitch 2.285 mm; Supplier 1: Digi-Key; Supplier Part Number 1: 568-6981-2-ND; Supplier 2: Digi-Key; Supplier Part Number 2: 568-6981-1-ND; Supplier 3: Digi-Key; Supplier Part Number 3: 568-6981-6-ND; Supplier 4: Mouser; Supplier Part Number 4: 771-BUK621055C118; Mounting Technology: Surface Mount; Code_JEITA: SC-63; Code_JEDEC: TO-252; ComponentLink1Description: Manufacturer URL; ComponentLink1URL: http://www.nxp.com/; ComponentLink2Description: Datasheet; ComponentLink2URL: http://www.nxp.com/documents/data_sheet/BUK6210-55C.pdf; ComponentLink3Description: Package Specification; ComponentLink3URL: http://www.nxp.com/documents/outline_drawing/sot428_po.pdf
footprint NXP-SOT428_N (DPAK, 3-Leads, Body 6.75x6.22mm, Pitch 2.29mm, IPC Medium Density)
footprint NXP-SOT428_L (DPAK, 3-Leads, Body 6.75x6.22mm, Pitch 2.29mm, IPC High Density)
footprint NXP-SOT428_M (DPAK, 3-Leads, Body 6.75x6.22mm, Pitch 2.29mm, IPC Low Density)
pins: 1 G "gate", 3 S "source", 4 D "mounting base; connected to drain"

## BUK6211-75C,118
designator Q?
N-Channel TrenchMOS FET, 75 V, 74 A, 3-Pin SOT428, Tape and Reel; Manufacturer: NXP Semiconductors; PartNumber: BUK6211-75C,118; Automotive Qualified: Y; Channel Type: N; ID [max] (A): 74; IDM [max] (A): 297; Packing: Tape & Reel; Qr [typ] (nC): 105; VDS [max] (V): 75; VGSth [typ] (V): 2.3; DatasheetVersion: Rev. 02; PackageVersion: 14-06-10, 06/2014; PackageReference: SOT428; PackageDescription: 3-Pin Plastic Single-ended Surface Mounted Package, Body 6.1 x 6.6 mm, Pitch 2.285 mm; Supplier 1: Digi-Key; Supplier Part Number 1: 568-6982-2-ND; Supplier 2: Digi-Key; Supplier Part Number 2: 568-6982-1-ND; Supplier 3: Digi-Key; Supplier Part Number 3: 568-6982-6-ND; Supplier 4: Mouser; Supplier Part Number 4: 771-BUK621175C118; Mounting Technology: Surface Mount; Code_JEITA: SC-63; Code_JEDEC: TO-252; ComponentLink1Description: Manufacturer URL; ComponentLink1URL: http://www.nxp.com/; ComponentLink2Description: Datasheet; ComponentLink2URL: http://www.nxp.com/documents/data_sheet/BUK6211-75C.pdf; ComponentLink3Description: Package Specification; ComponentLink3URL: http://www.nxp.com/documents/outline_drawing/sot428_po.pdf
footprint NXP-SOT428_N (DPAK, 3-Leads, Body 6.75x6.22mm, Pitch 2.29mm, IPC Medium Density)
footprint NXP-SOT428_L (DPAK, 3-Leads, Body 6.75x6.22mm, Pitch 2.29mm, IPC High Density)
footprint NXP-SOT428_M (DPAK, 3-Leads, Body 6.75x6.22mm, Pitch 2.29mm, IPC Low Density)
pins: 1 G "gate", 3 S "source", 4 D "mounting base; connected to drain"

## BUK6212-40C,118
designator Q?
N-Channel TrenchMOS Intermediate Level FET, 40 V, 50 A, 3-Pin SOT428, Tape and Reel; Manufacturer: NXP Semiconductors; PartNumber: BUK6212-40C,118; Automotive Qualified: Y; Channel Type: N; ID [max] (A): 50; IDM [max] (A): 233; Packing: Tape & Reel; Qr [typ] (nC): 38; VDS [max] (V): 40; VGSth [typ] (V): 2.3; DatasheetVersion: Rev. 2; PackageVersion: 14-06-10, 06/2014; PackageReference: SOT428; PackageDescription: 3-Pin Plastic Single-ended Surface Mounted Package, Body 6.1 x 6.6 mm, Pitch 2.285 mm; Supplier 1: Digi-Key; Supplier Part Number 1: 568-6983-2-ND; Supplier 2: Digi-Key; Supplier Part Number 2: 568-6983-1-ND; Supplier 3: Digi-Key; Supplier Part Number 3: 568-6983-6-ND; Supplier 4: Mouser; Supplier Part Number 4: 771-BUK621240C118; Mounting Technology: Surface Mount; Code_JEITA: SC-63; Code_JEDEC: TO-252; ComponentLink1Description: Manufacturer URL; ComponentLink1URL: http://www.nxp.com/; ComponentLink2Description: Datasheet; ComponentLink2URL: http://www.nxp.com/documents/data_sheet/BUK6212-40C.pdf; ComponentLink3Description: Package Specification; ComponentLink3URL: http://www.nxp.com/documents/outline_drawing/sot428_po.pdf
footprint NXP-SOT428_N (DPAK, 3-Leads, Body 6.75x6.22mm, Pitch 2.29mm, IPC Medium Density)
footprint NXP-SOT428_L (DPAK, 3-Leads, Body 6.75x6.22mm, Pitch 2.29mm, IPC High Density)
footprint NXP-SOT428_M (DPAK, 3-Leads, Body 6.75x6.22mm, Pitch 2.29mm, IPC Low Density)
pins: 1 G "gate", 3 S "source", 4 D "mounting base; connected to drain"

## BUK6213-30A,118
designator Q?
N-Channel TrenchMOS Intermediate Level FET, 30 V, 3-Pin SOT428, Tape and Reel; Manufacturer: NXP Semiconductors; PartNumber: BUK6213-30A,118; Automotive Qualified: Y; Channel Type: N; IDM [max] (A): 257; Packing: Tape & Reel; Qr [typ] (nC): 27; VDS [max] (V): 30; VGSth [typ] (V): 1.8; DatasheetVersion: Rev. 03; PackageVersion: 14-06-10, 06/2014; PackageReference: SOT428; PackageDescription: 3-Pin Plastic Single-ended Surface Mounted Package, Body 6.1 x 6.6 mm, Pitch 2.285 mm; Supplier 1: Digi-Key; Supplier Part Number 1: BUK6213-30A,118-ND; Supplier 2: Mouser; Supplier Part Number 2: 771-BUK6213-30A,118; Mounting Technology: Surface Mount; Code_JEITA: SC-63; Code_JEDEC: TO-252; ComponentLink1Description: Manufacturer URL; ComponentLink1URL: http://www.nxp.com/; ComponentLink2Description: Datasheet; ComponentLink2URL: http://www.nxp.com/documents/data_sheet/BUK6213-30A.pdf; ComponentLink3Description: Package Specification; ComponentLink3URL: http://www.nxp.com/documents/outline_drawing/sot428_po.pdf
footprint NXP-SOT428_N (DPAK, 3-Leads, Body 6.75x6.22mm, Pitch 2.29mm, IPC Medium Density)
footprint NXP-SOT428_L (DPAK, 3-Leads, Body 6.75x6.22mm, Pitch 2.29mm, IPC High Density)
footprint NXP-SOT428_M (DPAK, 3-Leads, Body 6.75x6.22mm, Pitch 2.29mm, IPC Low Density)
pins: 1 G "gate", 3 S "source", 4 D "mounting base; connected to drain"

## BUK6213-30C,118
designator Q?
N-Channel TrenchMOS Intermediate Level FET, 30 V, 47 A, 3-Pin SOT428, Tape and Reel; Manufacturer: NXP Semiconductors; PartNumber: BUK6213-30C,118; Automotive Qualified: Y; Channel Type: N; ID [max] (A): 47; IDM [max] (A): 189; Packing: Tape & Reel; Qr [typ] (nC): 25.4; VDS [max] (V): 30; VGSth [typ] (V): 2.3; DatasheetVersion: Rev. 01; PackageVersion: 14-06-10, 06/2014; PackageReference: SOT428; PackageDescription: 3-Pin Plastic Single-ended Surface Mounted Package, Body 6.1 x 6.6 mm, Pitch 2.285 mm; Supplier 1: Digi-Key; Supplier Part Number 1: 568-6984-2-ND; Supplier 2: Digi-Key; Supplier Part Number 2: 568-6984-1-ND; Supplier 3: Digi-Key; Supplier Part Number 3: 568-6984-6-ND; Supplier 4: Mouser; Supplier Part Number 4: 771-BUK621330C118; Mounting Technology: Surface Mount; Code_JEITA: SC-63; Code_JEDEC: TO-252; ComponentLink1Description: Manufacturer URL; ComponentLink1URL: http://www.nxp.com/; ComponentLink2Description: Datasheet; ComponentLink2URL: http://www.nxp.com/documents/data_sheet/BUK6213-30C.pdf; ComponentLink3Description: Package Specification; ComponentLink3URL: http://www.nxp.com/documents/outline_drawing/sot428_po.pdf
footprint NXP-SOT428_N (DPAK, 3-Leads, Body 6.75x6.22mm, Pitch 2.29mm, IPC Medium Density)
footprint NXP-SOT428_L (DPAK, 3-Leads, Body 6.75x6.22mm, Pitch 2.29mm, IPC High Density)
footprint NXP-SOT428_M (DPAK, 3-Leads, Body 6.75x6.22mm, Pitch 2.29mm, IPC Low Density)
pins: 1 G "gate", 3 S "source", 4 D "mounting base; connected to drain"

## BUK6215-75C,118
designator Q?
N-Channel TrenchMOS FET, 75 V, 57 A, 3-Pin SOT428, Tape and Reel; Manufacturer: NXP Semiconductors; PartNumber: BUK6215-75C,118; Automotive Qualified: Y; Channel Type: N; ID [max] (A): 57; IDM [max] (A): 229; Packing: Tape & Reel; Qr [typ] (nC): 117; VDS [max] (V): 75; VGSth [typ] (V): 2.3; DatasheetVersion: Rev. 02; PackageVersion: 14-06-10, 06/2014; PackageReference: SOT428; PackageDescription: 3-Pin Plastic Single-ended Surface Mounted Package, Body 6.1 x 6.6 mm, Pitch 2.285 mm; Supplier 1: Digi-Key; Supplier Part Number 1: 568-6985-2-ND; Supplier 2: Digi-Key; Supplier Part Number 2: 568-6985-1-ND; Supplier 3: Digi-Key; Supplier Part Number 3: 568-6985-6-ND; Supplier 4: Mouser; Supplier Part Number 4: 771-BUK621575C118; Mounting Technology: Surface Mount; Code_JEITA: SC-63; Code_JEDEC: TO-252; ComponentLink1Description: Manufacturer URL; ComponentLink1URL: http://www.nxp.com/; ComponentLink2Description: Datasheet; ComponentLink2URL: http://www.nxp.com/documents/data_sheet/BUK6215-75C.pdf; ComponentLink3Description: Package Specification; ComponentLink3URL: http://www.nxp.com/documents/outline_drawing/sot428_po.pdf
footprint NXP-SOT428_N (DPAK, 3-Leads, Body 6.75x6.22mm, Pitch 2.29mm, IPC Medium Density)
footprint NXP-SOT428_L (DPAK, 3-Leads, Body 6.75x6.22mm, Pitch 2.29mm, IPC High Density)
footprint NXP-SOT428_M (DPAK, 3-Leads, Body 6.75x6.22mm, Pitch 2.29mm, IPC Low Density)
pins: 1 G "gate", 3 S "source", 4 D "mounting base; connected to drain"

## BUK6217-55C,118
designator Q?
N-Channel TrenchMOS Intermediate Level FET, 55 V, 44 A, 3-Pin SOT428, Tape and Reel; Manufacturer: NXP Semiconductors; PartNumber: BUK6217-55C,118; Automotive Qualified: Y; Channel Type: N; ID [max] (A): 44; IDM [max] (A): 175; Packing: Tape & Reel; Qr [typ] (nC): 70; VDS [max] (V): 55; VGSth [typ] (V): 2.3; DatasheetVersion: Rev. 3; PackageVersion: 14-06-10, 06/2014; PackageReference: SOT428; PackageDescription: 3-Pin Plastic Single-ended Surface Mounted Package, Body 6.1 x 6.6 mm, Pitch 2.285 mm; Supplier 1: Digi-Key; Supplier Part Number 1: 568-6986-2-ND; Supplier 2: Digi-Key; Supplier Part Number 2: 568-6986-1-ND; Supplier 3: Digi-Key; Supplier Part Number 3: 568-6986-6-ND; Supplier 4: Mouser; Supplier Part Number 4: 771-BUK621755C118; Mounting Technology: Surface Mount; Code_JEITA: SC-63; Code_JEDEC: TO-252; ComponentLink1Description: Manufacturer URL; ComponentLink1URL: http://www.nxp.com/; ComponentLink2Description: Datasheet; ComponentLink2URL: http://www.nxp.com/documents/data_sheet/BUK6217-55C.pdf; ComponentLink3Description: Package Specification; ComponentLink3URL: http://www.nxp.com/documents/outline_drawing/sot428_po.pdf
footprint NXP-SOT428_N (DPAK, 3-Leads, Body 6.75x6.22mm, Pitch 2.29mm, IPC Medium Density)
footprint NXP-SOT428_L (DPAK, 3-Leads, Body 6.75x6.22mm, Pitch 2.29mm, IPC High Density)
footprint NXP-SOT428_M (DPAK, 3-Leads, Body 6.75x6.22mm, Pitch 2.29mm, IPC Low Density)
pins: 1 G "gate", 3 S "source", 4 D "mounting base; connected to drain"

## BUK6218-40C,118
designator Q?
N-Channel TrenchMOS Intermediate Level FET, 40 V, 42 A, 3-Pin SOT428, Tape and Reel; Manufacturer: NXP Semiconductors; PartNumber: BUK6218-40C,118; Automotive Qualified: Y; Channel Type: N; ID [max] (A): 42; IDM [max] (A): 168; Packing: Tape & Reel; Qr [typ] (nC): 35.9; VDS [max] (V): 40; VGSth [typ] (V): 2.3; DatasheetVersion: Rev. 1; PackageVersion: 14-06-10, 06/2014; PackageReference: SOT428; PackageDescription: 3-Pin Plastic Single-ended Surface Mounted Package, Body 6.1 x 6.6 mm, Pitch 2.285 mm; Supplier 1: Digi-Key; Supplier Part Number 1: 568-6987-2-ND; Supplier 2: Digi-Key; Supplier Part Number 2: 568-6987-1-ND; Supplier 3: Digi-Key; Supplier Part Number 3: 568-6987-6-ND; Supplier 4: Mouser; Supplier Part Number 4: 771-BUK621840C118; Mounting Technology: Surface Mount; Code_JEITA: SC-63; Code_JEDEC: TO-252; ComponentLink1Description: Manufacturer URL; ComponentLink1URL: http://www.nxp.com/; ComponentLink2Description: Datasheet; ComponentLink2URL: http://www.nxp.com/documents/data_sheet/BUK6218-40C.pdf; ComponentLink3Description: Package Specification; ComponentLink3URL: http://www.nxp.com/documents/outline_drawing/sot428_po.pdf
footprint NXP-SOT428_N (DPAK, 3-Leads, Body 6.75x6.22mm, Pitch 2.29mm, IPC Medium Density)
footprint NXP-SOT428_L (DPAK, 3-Leads, Body 6.75x6.22mm, Pitch 2.29mm, IPC High Density)
footprint NXP-SOT428_M (DPAK, 3-Leads, Body 6.75x6.22mm, Pitch 2.29mm, IPC Low Density)
pins: 1 G "gate", 3 S "source", 4 D "mounting base; connected to drain"

## BUK6226-75C,118
designator Q?
N-Channel TrenchMOS FET, 75 V, 33 A, 3-Pin SOT428, Tape and Reel; Manufacturer: NXP Semiconductors; PartNumber: BUK6226-75C,118; Automotive Qualified: Y; Channel Type: N; ID [max] (A): 33; IDM [max] (A): 130; Packing: Tape & Reel; Qr [typ] (nC): 74; VDS [max] (V): 75; VGSth [typ] (V): 2.3; DatasheetVersion: Rev. 01; PackageVersion: 14-06-10, 06/2014; PackageReference: SOT428; PackageDescription: 3-Pin Plastic Single-ended Surface Mounted Package, Body 6.1 x 6.6 mm, Pitch 2.285 mm; Supplier 1: Digi-Key; Supplier Part Number 1: 568-6988-2-ND; Supplier 2: Digi-Key; Supplier Part Number 2: 568-6988-1-ND; Supplier 3: Digi-Key; Supplier Part Number 3: 568-6988-6-ND; Supplier 4: Mouser; Supplier Part Number 4: 771-BUK622675C118; Mounting Technology: Surface Mount; Code_JEITA: SC-63; Code_JEDEC: TO-252; ComponentLink1Description: Manufacturer URL; ComponentLink1URL: http://www.nxp.com/; ComponentLink2Description: Datasheet; ComponentLink2URL: http://www.nxp.com/documents/data_sheet/BUK6226-75C.pdf; ComponentLink3Description: Package Specification; ComponentLink3URL: http://www.nxp.com/documents/outline_drawing/sot428_po.pdf
footprint NXP-SOT428_N (DPAK, 3-Leads, Body 6.75x6.22mm, Pitch 2.29mm, IPC Medium Density)
footprint NXP-SOT428_L (DPAK, 3-Leads, Body 6.75x6.22mm, Pitch 2.29mm, IPC High Density)
footprint NXP-SOT428_M (DPAK, 3-Leads, Body 6.75x6.22mm, Pitch 2.29mm, IPC Low Density)
pins: 1 G "gate", 3 S "source", 4 D "mounting base; connected to drain"